# EAGLE library part 12401832E402A (library 12401832E402A)
USB3.2 GEN2, Type C, Top mount, CH 1.58mm, Dual Row SMT Source: Datasheet <https://cdn.amphenol-cs.com/media/wysiwyg/files/documentation/datasheet/inputoutput/io_usb_type_c.pdf>
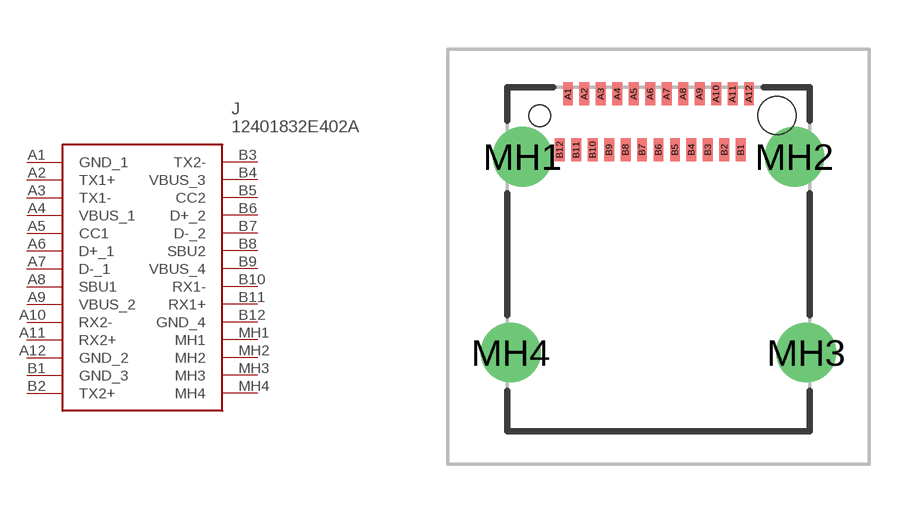
[diagram p0: symbol with the pads of 12401832E402A; footprint 12401832E402A]

Designator prefix J

## 12401832E402A (Description: USB3.2 GEN2, Type C, Top mount, CH 1.58mm, Dual Row SMT; Height: 3.53mm; Manufacturer_Name: Amphenol Communications Solutions; Manufacturer_Part_Number: 12401832E402A; Mouser_Part_Number: 523-12401832E402A; Mouser_Price-Stock: https://www.mouser.co.uk/ProductDetail/Amphenol-Commercial-Products/12401832E402A?qs=5aG0NVq1C4zkz1mXTcv%2FVQ%3D%3D)  [12401832E402A]
A1  GND_1
A2  TX1+
A3  TX1-
A4  VBUS_1
A5  CC1
A6  D+_1
A7  D-_1
A8  SBU1
A9  VBUS_2
A10  RX2-
A11  RX2+
A12  GND_2
B1  GND_3
B2  TX2+
B3  TX2-
B4  VBUS_3
B5  CC2
B6  D+_2
B7  D-_2
B8  SBU2
B9  VBUS_4
B10  RX1-
B11  RX1+
B12  GND_4
MH1  MH1
MH2  MH2
MH3  MH3
MH4  MH4

## Footprint 12401832E402A (pad centres in mm)
12401832E402A-1
smd 0.3 x 0.7: A1 -2.75,5.025; A2 -2.25,5.025; A3 -1.75,5.025; A4 -1.25,5.025; A5 -0.75,5.025; A6 -0.25,5.025; A7 0.25,5.025; A8 0.75,5.025; A9 1.25,5.025; A10 1.75,5.025; A11 2.25,5.025; A12 2.75,5.025; B1 2.5,3.325; B2 2,3.325; B3 1.5,3.325; B4 1,3.325; B5 0.5,3.325; B6 0,3.325; B7 -0.5,3.325; B8 -1,3.325; B9 -1.5,3.325; B10 -2,3.325; B11 -2.5,3.325; B12 -3,3.325
drill 1.21 pad 1.815: MH1 -4.13,3.115; MH2 4.13,3.115; MH3 4.49,-2.835; MH4 -4.49,-2.835
hole 0.65 at -3.6,4.365
hole 1.15 at 3.6,4.365